# Altium footprint library ICs.PcbLib: 72 footprints (part 2 of 5)
Each footprint in its own frame and in the unit in brackets; x right, y up, seen from the top. Pads: shape width x height; smd on the part's side, far side on the other; paste and mask are expansions set on the pad; w line width, h text height; cw(c..) or ccw(c..) is an arc to the next point about the centre after c.
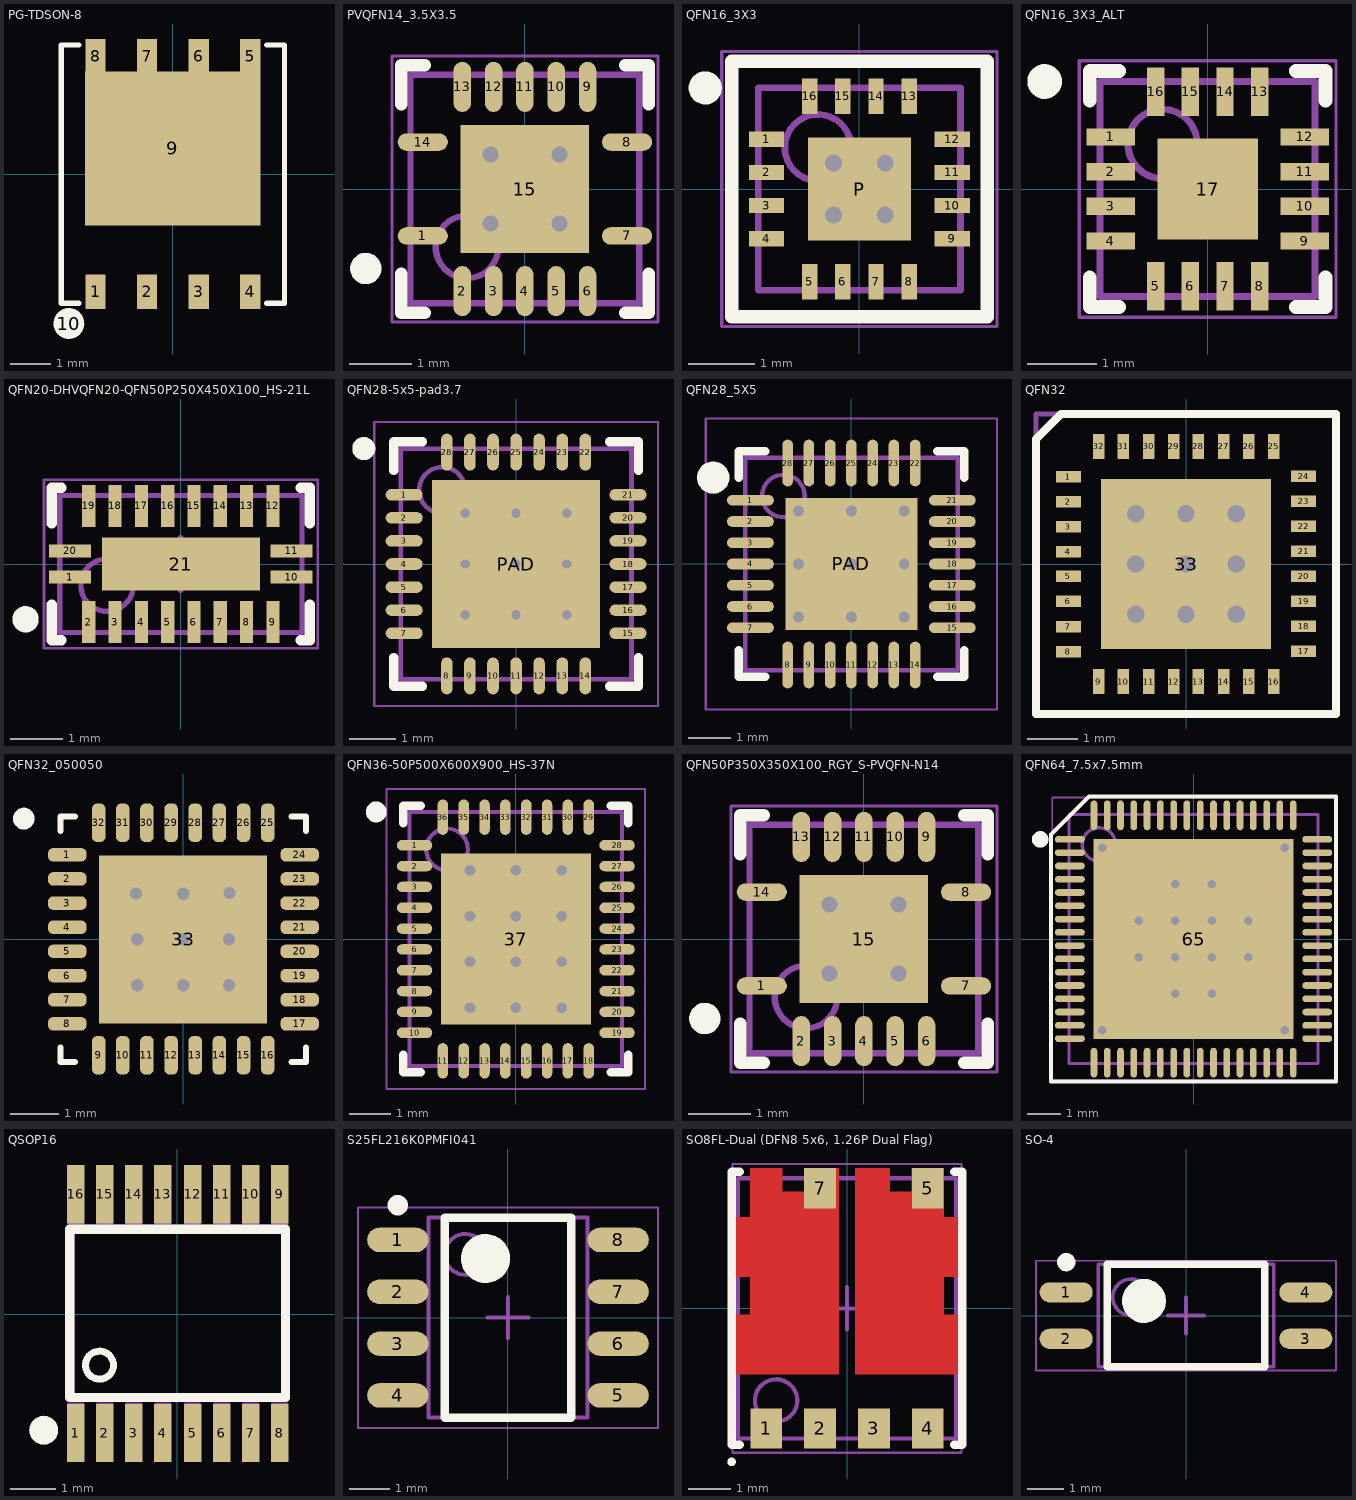
[diagram p1: the footprints below, top view; thin cyan lines are the x and y axes]

## PG-TDSON-8 [mm]
pads (10):
  rect 0.5x0.85 smd mask+0.051: 1(-1.905,-2.9) 2(-0.635,-2.9) 3(0.635,-2.9) 4(1.905,-2.9) 5(1.905,2.9) 6(0.635,2.9) 7(-0.635,2.9) 8(-1.905,2.9)
  rect 4.32x3.8 smd mask+0.051: 9(0,0.63)
  round 0.762 on Top Overlay mask+0.051: 10(-2.56,-3.68)
Top Overlay:
  lines w0.127: -2.31,-3.18 -2.75,-3.18 -2.75,3.18 -2.31,3.18 ; 2.31,-3.18 2.75,-3.18 2.75,3.18 2.31,3.18
3D body: height 1.1, standoff 0, extent -2.75,-3.18 2.75,3.18

## PVQFN14_3.5X3.5 [mm] "QFN, 14-Leads, Body 3.50x3.50mm, Pitch 1.50mm/0.50mm, Thermal Pad 2.05x2.05mm, IPC High Density"
height 1
pads (15):
  oval 0.8x0.28 smd: 1(-1.631,-0.75) 7(1.631,-0.75) 8(1.631,0.75) 14(-1.631,0.75)
  oval 0.28x0.8 smd: 2(-1,-1.631) 3(-0.5,-1.631) 4(0,-1.631) 5(0.5,-1.631) 6(1,-1.631) 9(1,1.631) 10(0.5,1.631) 11(0,1.631) 12(-0.5,1.631) 13(-1,1.631)
  rect 2.05x2.05 smd paste-1.143: 15(0,0)
via 0.55,0.55 diameter 0.559 hole 0.254
via 0.55,-0.55 diameter 0.559 hole 0.254
via -0.55,0.55 diameter 0.559 hole 0.254
via -0.55,-0.55 diameter 0.559 hole 0.254
Top Overlay:
  circle w0.25: c-2.54,-1.27 r0.125
  lines w0.2: -1.975,-1.35 -1.975,-1.975 -1.6,-1.975 ; -1.975,1.35 -1.975,1.975 -1.6,1.975 ; 1.6,-1.975 1.975,-1.975 1.975,-1.35 ; 1.6,1.975 1.975,1.975 1.975,1.35
Top Paste:
  region: -0.84,-0.84 -0.84,-0.12 -0.11,-0.12 -0.11,-0.84
  region: 0.84,-0.84 0.12,-0.84 0.12,-0.11 0.84,-0.11
  region: 0.84,0.84 0.84,0.12 0.11,0.12 0.11,0.84
  region: -0.84,0.84 -0.12,0.84 -0.12,0.11 -0.84,0.11
Top Solder:
  rectangle: -1.346,-2.134 1.295,2.134
Mechanical 13:
  circle w0.1: c-0.925,-0.925 r0.5
  lines w0.1: -1.825,-1.825 -1.825,1.825 1.825,1.825 1.825,-1.825 -1.825,-1.825
Mechanical 15:
  lines w0.05: -2.125,-2.125 -2.125,2.125 2.125,2.125 2.125,-2.125 -2.125,-2.125
  lines w0.1: -0.5,0 0.5,0 ; 0,-0.5 0,0.5
3D body: height 1, standoff 0.08, extent -1.825,-1.825 1.825,1.825

## QFN16_3X3 [mm]
height 0.9
pads (21):
  rect 0.53x0.23 smd mask+0.051: 1(-1.4,0.75) 2(-1.4,0.25) 3(-1.4,-0.25) 4(-1.4,-0.75) 9(1.4,-0.75) 10(1.4,-0.25) 11(1.4,0.25) 12(1.4,0.75)
  rect 0.23x0.53 smd mask+0.051: 5(-0.75,-1.4) 6(-0.25,-1.4) 7(0.25,-1.4) 8(0.75,-1.4) 13(0.75,1.4) 14(0.25,1.4) 15(-0.25,1.4) 16(-0.75,1.4)
  rect 1.55x1.55 smd paste-0.8 mask+0.051: P(0,0)
  rect 0.6x0.6 on Top Paste: ""(-0.402,0.402) ""(-0.401,-0.401) ""(0.4,0.401) ""(0.401,-0.401)
via -0.39,-0.39 diameter 0.559 hole 0.254
via 0.39,-0.39 diameter 0.559 hole 0.254
via 0.39,0.39 diameter 0.559 hole 0.254
via -0.39,0.39 diameter 0.559 hole 0.254
Top Overlay:
  circle w0.25: c-2.325,1.525 r0.125
  lines w0.203: -1.925,-1.925 1.925,-1.925 1.925,1.925 -1.925,1.925 -1.925,-1.925
Mechanical 13:
  circle w0.1: c-0.625,0.625 r0.5
  lines w0.1: -1.525,-1.525 -1.525,1.525 1.525,1.525 1.525,-1.525 -1.525,-1.525
Mechanical 15:
  lines w0.05: -2.075,-2.075 -2.075,2.075 2.075,2.075 2.075,-2.075 -2.075,-2.075
  lines w0.1: -0.5,0 0.5,0 ; 0,-0.5 0,0.5
3D body "QFN16_3X3.step": height 0.9, standoff 0, extent -1.526,-1.526 1.526,1.526

## QFN16_3X3_ALT [mm]
height 0.8
pads (17):
  rect 0.7x0.25 smd mask+0.051: 1(-1.4,0.75) 2(-1.4,0.25) 3(-1.4,-0.25) 4(-1.4,-0.75) 9(1.4,-0.75) 10(1.4,-0.25) 11(1.4,0.25) 12(1.4,0.75)
  rect 0.25x0.7 smd mask+0.051: 5(-0.75,-1.4) 6(-0.25,-1.4) 7(0.25,-1.4) 8(0.75,-1.4) 13(0.75,1.4) 14(0.25,1.4) 15(-0.25,1.4) 16(-0.75,1.4)
  rect 1.45x1.45 smd paste-0.75 mask+0.051: 17(0,0)
Top Overlay:
  circle w0.25: c-2.35,1.55 r0.125
  lines w0.2: -1.7,-1.275 -1.7,-1.7 -1.275,-1.7 ; -1.7,1.275 -1.7,1.7 -1.275,1.7 ; 1.275,-1.7 1.7,-1.7 1.7,-1.275 ; 1.275,1.7 1.7,1.7 1.7,1.275
Top Paste:
  region: 0.64,0.64 0.03,0.64 0.03,0.03 0.64,0.03
  region: 0.64,-0.64 0.64,-0.03 0.03,-0.03 0.03,-0.64
  region: -0.64,-0.64 -0.03,-0.64 -0.03,-0.03 -0.64,-0.03
  region: -0.64,0.64 -0.64,0.03 -0.03,0.03 -0.03,0.64
Mechanical 13:
  circle w0.1: c-0.65,0.65 r0.5
  lines w0.1: -1.55,-1.55 1.55,-1.55 1.55,1.55 -1.55,1.55 -1.55,-1.55
Mechanical 15:
  lines w0.05: -1.85,-1.85 1.85,-1.85 1.85,1.85 -1.85,1.85 -1.85,-1.85
  lines w0.1: -0.5,0 0.5,0 ; 0,-0.5 0,0.5
3D body "QFN16_3X3_ALT.step": height 0.8, standoff 0, extent -1.551,-1.551 1.551,1.551

## QFN20-DHVQFN20-QFN50P250X450X100_HS-21L [mm] "QFN, 20-Leads, Body 2.50x4.50mm, Pitch 0.50mm, Thermal Pad 1.00x3.00mm, IPC High Density"
height 1
pads (21):
  rect 0.8x0.25 smd: 1(-2.105,-0.25) 10(2.105,-0.25) 11(2.105,0.25) 20(-2.105,0.25)
  rect 0.25x0.8 smd: 2(-1.75,-1.105) 3(-1.25,-1.105) 4(-0.75,-1.105) 5(-0.25,-1.105) 6(0.25,-1.105) 7(0.75,-1.105) 8(1.25,-1.105) 9(1.75,-1.105) 12(1.75,1.105) 13(1.25,1.105) 14(0.75,1.105) 15(0.25,1.105) 16(-0.25,1.105) 17(-0.75,1.105) 18(-1.25,1.105) 19(-1.75,1.105)
  rect 3x1 smd paste-5.08: 21(0,0)
Top Overlay:
  circle w0.25: c-2.95,-1.05 r0.125
  lines w0.2: -2.45,-0.775 -2.45,-1.45 -2.275,-1.45 ; -2.45,0.775 -2.45,1.45 -2.275,1.45 ; 2.275,-1.45 2.45,-1.45 2.45,-0.775 ; 2.275,1.45 2.45,1.45 2.45,0.775
Top Paste:
  region: 1.5,0.5 0.15,0.5 0.15,-0.5 1.5,-0.5
  rectangle: -1.5,-0.5 -0.15,0.5
Top Solder:
  rectangle: -2.6,-0.5 2.625,0.5
  rectangle: -1.975,-1.6 1.975,1.6
Assembly Top:
  circle w0.1: c-1.4,-0.4 r0.5
  lines w0.1: -2.3,-1.3 -2.3,1.3 2.3,1.3 2.3,-1.3 -2.3,-1.3
Courtyard Top:
  lines w0.05: -2.6,-1.6 -2.6,1.6 2.6,1.6 2.6,-1.6 -2.6,-1.6
  lines w0.1: -0.5,0 0.5,0 ; 0,-0.5 0,0.5
3D body "QFN20-DHVQFN20-QFN50P250X450X100_HS-21L.step": height 1, standoff 0, extent -2.301,-1.301 2.301,1.301

## QFN28-5x5-pad3.7 [mm] "QFN, 28-Leads, Body 5.00x5.00mm, Pitch 0.50mm, Thermal Pad 3.70x3.70mm, IPC Medium Density"
height 0.9
pads (29):
  oval 0.8x0.25 smd: 1(-2.425,1.5) 2(-2.425,1) 3(-2.425,0.5) 4(-2.425,0) 5(-2.425,-0.5) 6(-2.425,-1) 7(-2.425,-1.5) 15(2.425,-1.5) 16(2.425,-1) 17(2.425,-0.5) 18(2.425,0) 19(2.425,0.5) 20(2.425,1) 21(2.425,1.5)
  oval 0.25x0.8 smd: 8(-1.5,-2.425) 9(-1,-2.425) 10(-0.5,-2.425) 11(0,-2.425) 12(0.5,-2.425) 13(1,-2.425) 14(1.5,-2.425) 22(1.5,2.425) 23(1,2.425) 24(0.5,2.425) 25(0,2.425) 26(-0.5,2.425) 27(-1,2.425) 28(-1.5,2.425)
  rect 3.644x3.644 smd: PAD(0,0)
via -1.1,1.1 diameter 0.5 hole 0.2
via 0,1.1 diameter 0.5 hole 0.2
via 1.1,1.1 diameter 0.5 hole 0.2
via -1.1,0 diameter 0.5 hole 0.2
via 0,0 diameter 0.5 hole 0.2
via 1.1,0 diameter 0.5 hole 0.2
via -1.1,-1.1 diameter 0.5 hole 0.2
via 0,-1.1 diameter 0.5 hole 0.2
via 1.1,-1.1 diameter 0.5 hole 0.2
Top Overlay:
  circle w0.25: c-3.3,2.5 r0.125
  lines w0.2: -2.65,-2.025 -2.65,-2.65 -2.025,-2.65 ; -2.65,2.025 -2.65,2.65 -2.025,2.65 ; 2.025,-2.65 2.65,-2.65 2.65,-2.025 ; 2.025,2.65 2.65,2.65 2.65,2.025
Assembly Top:
  circle w0.1: c-1.6,1.6 r0.5
  lines w0.1: -2.5,-2.5 -2.5,2.5 2.5,2.5 2.5,-2.5 -2.5,-2.5
Courtyard Top:
  lines w0.05: -3.075,-3.075 -3.075,3.075 3.075,3.075 3.075,-3.075 -3.075,-3.075
  lines w0.1: -0.5,0 0.5,0 ; 0,-0.5 0,0.5
3D body: height 0.9, standoff 0, extent -2.5,-2.5 2.5,2.5

## QFN28_5X5 [mm] "QFN, 28-Leads, Body 5.00x5.00mm, Pitch 0.50mm, Thermal Pad 3.10x3.10mm, IPC Low Density"
height 0.9
pads (42):
  oval 1.1x0.25 smd paste-0.025 mask+0.051: 1(-2.375,1.5) 2(-2.375,1) 3(-2.375,0.5) 4(-2.375,0) 5(-2.375,-0.5) 6(-2.375,-1) 7(-2.375,-1.5) 15(2.375,-1.5) 16(2.375,-1) 17(2.375,-0.5) 18(2.375,0) 19(2.375,0.5) 20(2.375,1) 21(2.375,1.5)
  oval 0.25x1.1 smd paste-0.025 mask+0.051: 8(-1.5,-2.375) 9(-1,-2.375) 10(-0.5,-2.375) 11(0,-2.375) 12(0.5,-2.375) 13(1,-2.375) 14(1.5,-2.375) 22(1.5,2.375) 23(1,2.375) 24(0.5,2.375) 25(0,2.375) 26(-0.5,2.375) 27(-1,2.375) 28(-1.5,2.375)
  rect 3.1x3.1 smd paste-1.651 mask+0.051: PAD(0,0)
  round 0.762 on Top Overlay: ""(-3.251,2.032)
  rect 0.508x0.508 on Top Paste: ""(-1.245,-0.559) ""(-1.245,0.559) ""(-0.559,-1.27) ""(-0.559,1.245) ""(0.559,-1.27) ""(0.559,1.245) ""(1.245,-0.559) ""(1.245,0.559)
  rect 0.635x0.635 on Top Paste: ""(-0.508,-0.508) ""(-0.508,0.508) ""(0.508,-0.508) ""(0.508,0.508)
via 1.245,-1.245 diameter 0.559 hole 0.254
via 0,-1.245 diameter 0.559 hole 0.254
via -1.245,-1.245 diameter 0.559 hole 0.254
via 1.245,0 diameter 0.559 hole 0.254
via 0,0 diameter 0.559 hole 0.254
via -1.245,0 diameter 0.559 hole 0.254
via 1.245,1.245 diameter 0.559 hole 0.254
via 0,1.245 diameter 0.559 hole 0.254
via -1.245,1.245 diameter 0.559 hole 0.254
Top Overlay:
  lines w0.2: -2.65,-2.025 -2.65,-2.65 -2.025,-2.65 ; -2.65,2.025 -2.65,2.65 -2.025,2.65 ; 2.025,-2.65 2.65,-2.65 2.65,-2.025 ; 2.025,2.65 2.65,2.65 2.65,2.025
Drill Guide:
  lines w0.051: -1.245,-1.549 -1.245,1.245 1.549,1.245 ; -1.245,-1.245 1.549,-1.245 ; 1.245,-1.245 1.245,1.549
Mechanical 13:
  circle w0.1: c-1.6,1.6 r0.5
  lines w0.1: -2.5,-2.5 2.5,-2.5 2.5,2.5 -2.5,2.5 -2.5,-2.5
Mechanical 15:
  lines w0.05: -3.425,-3.425 3.425,-3.425 3.425,3.425 -3.425,3.425 -3.425,-3.425
  lines w0.1: -0.5,0 0.5,0 ; 0,-0.5 0,0.5
3D body "QFN28_5X5.step": height 0.9, standoff 0, extent -2.501,-2.501 2.501,2.501

## QFN32 [mm]
pads (33):
  rect 0.5x0.23 smd: 1(-2.35,1.75) 2(-2.35,1.25) 3(-2.35,0.75) 4(-2.35,0.25) 5(-2.35,-0.25) 6(-2.35,-0.75) 7(-2.35,-1.25) 8(-2.35,-1.75) 17(2.35,-1.75) 18(2.35,-1.25) 19(2.35,-0.75) 20(2.35,-0.25) 21(2.35,0.25) 22(2.35,0.75) 23(2.35,1.25) 24(2.35,1.75)
  rect 0.23x0.5 smd: 9(-1.75,-2.35) 10(-1.25,-2.35) 11(-0.75,-2.35) 12(-0.25,-2.35) 13(0.25,-2.35) 14(0.75,-2.35) 15(1.25,-2.35) 16(1.75,-2.35) 25(1.75,2.35) 26(1.25,2.35) 27(0.75,2.35) 28(0.25,2.35) 29(-0.25,2.35) 30(-0.75,2.35) 31(-1.25,2.35) 32(-1.75,2.35)
  rect 3.4x3.4 smd paste-1.7: 33(0,0)
via 1,0 diameter 0.7 hole 0.35
via -1,0 diameter 0.7 hole 0.35
via 0,0 diameter 0.7 hole 0.35
via 1,-1 diameter 0.7 hole 0.35
via -1,-1 diameter 0.7 hole 0.35
via 1,1 diameter 0.7 hole 0.35
via -1,1 diameter 0.7 hole 0.35
via 0,-1 diameter 0.7 hole 0.35
via 0,1 diameter 0.7 hole 0.35
Top Overlay:
  lines w0.152: -3,-3 -3,2.5 -2.5,3 3,3 3,-3 -3,-3
Top Paste:
  rectangle: 0.565,-1.435 1.435,-0.565
  rectangle: -0.435,-1.435 0.435,-0.565
  rectangle: -1.435,-1.435 -0.565,-0.565
  rectangle: -1.435,-0.435 -0.565,0.435
  rectangle: -1.435,0.565 -0.565,1.435
  rectangle: -0.435,0.565 0.435,1.435
  rectangle: 0.565,0.565 1.435,1.435
  rectangle: 0.565,-0.435 1.435,0.435
  rectangle: -0.435,-0.435 0.435,0.435
Mechanical 15:
  lines w0.1: -0.5,0 0.5,0 ; 0,-0.5 0,0.5 ; -3,-3 3,-3 3,3 -3,3 -3,-3
3D body "User Library-qfn32-5x5.step": height 0.8, standoff 0, extent -2.51,-2.51 2.51,2.51

## QFN32_050050 [mm]
pads (33):
  rrect80% 0.8x0.28 smd mask+0.05: 1(-2.4,1.75) 2(-2.4,1.25) 3(-2.4,0.75) 4(-2.4,0.25) 5(-2.4,-0.25) 6(-2.4,-0.75) 7(-2.4,-1.25) 8(-2.4,-1.75) 17(2.413,-1.75) 18(2.413,-1.25) 19(2.413,-0.75) 20(2.413,-0.25) 21(2.413,0.25) 22(2.413,0.75) 23(2.413,1.25) 24(2.413,1.75)
  rrect80% 0.28x0.8 smd mask+0.05: 9(-1.75,-2.4) 10(-1.25,-2.4) 11(-0.75,-2.4) 12(-0.25,-2.4) 13(0.25,-2.4) 14(0.75,-2.4) 15(1.25,-2.4) 16(1.75,-2.4) 25(1.75,2.413) 26(1.25,2.413) 27(0.75,2.413) 28(0.25,2.413) 29(-0.25,2.413) 30(-0.75,2.413) 31(-1.25,2.413) 32(-1.75,2.413)
  rect 3.48x3.48 smd paste-4: 33(0,0)
via 0.95,-0.95 diameter 0.559 hole 0.254
via 0,-0.95 diameter 0.559 hole 0.254
via -0.95,-0.95 diameter 0.559 hole 0.254
via -0.95,0 diameter 0.559 hole 0.254
via -0.975,0.95 diameter 0.559 hole 0.254
via 0,0.945 diameter 0.559 hole 0.254
via 0.959,0.957 diameter 0.559 hole 0.254
via 0.95,0 diameter 0.559 hole 0.254
via 0,0 diameter 0.559 hole 0.254
Top Overlay:
  circle w0.25: c-3.3,2.5 r0.1
  lines w0.127: -2.54,-2.24 -2.54,-2.54 -2.24,-2.54 ; -2.54,2.24 -2.54,2.54 -2.24,2.54 ; 2.24,-2.54 2.54,-2.54 2.54,-2.24 ; 2.24,2.54 2.54,2.54 2.54,2.24
Top Paste:
  region: -1.675,-1.675 -1.675,-1.05 -1.375,-1.05 -1.05,-1.375 -1.05,-1.675
  region: -0.125,-1.675 -0.825,-1.675 -0.825,-1.35 -0.575,-1.1 -0.35,-1.1 -0.125,-1.325
  region: -0.825,-0.575 -0.825,-0.375 -0.6,-0.15 -0.35,-0.15 -0.15,-0.35 -0.15,-0.6 -0.375,-0.825 -0.575,-0.825
  region: -1.675,-0.825 -1.675,-0.125 -1.348,-0.125 -1.1,-0.377 -1.1,-0.584 -1.337,-0.825
  region: 0.825,-1.675 0.125,-1.675 0.125,-1.348 0.377,-1.1 0.584,-1.1 0.825,-1.337
  region: 1.675,-0.125 1.675,-0.825 1.348,-0.825 1.1,-0.573 1.1,-0.366 1.337,-0.125
  region: 1.675,-1.675 1.05,-1.675 1.05,-1.375 1.375,-1.05 1.675,-1.05
  region: 0.125,-0.575 0.125,-0.375 0.35,-0.15 0.6,-0.15 0.8,-0.35 0.8,-0.6 0.575,-0.825 0.375,-0.825
  region: -0.125,0.575 -0.125,0.375 -0.35,0.15 -0.6,0.15 -0.8,0.35 -0.8,0.6 -0.575,0.825 -0.375,0.825
  region: -1.675,1.675 -1.05,1.675 -1.05,1.375 -1.375,1.05 -1.675,1.05
  region: -1.675,0.125 -1.675,0.825 -1.348,0.825 -1.1,0.573 -1.1,0.366 -1.337,0.125
  region: -0.825,1.675 -0.125,1.675 -0.125,1.348 -0.377,1.1 -0.584,1.1 -0.825,1.337
  region: 1.675,0.825 1.675,0.125 1.348,0.125 1.1,0.377 1.1,0.584 1.337,0.825
  region: 0.825,0.575 0.825,0.375 0.6,0.15 0.35,0.15 0.15,0.35 0.15,0.6 0.375,0.825 0.575,0.825
  region: 0.125,1.675 0.825,1.675 0.825,1.35 0.575,1.1 0.35,1.1 0.125,1.325
  region: 1.675,1.675 1.675,1.05 1.375,1.05 1.05,1.375 1.05,1.675
3D body: height 1, standoff 0, extent -2.84,-2.84 2.857,2.857

## QFN36-50P500X600X900_HS-37N [mm] "QFN, 36-Leads, Body 5.00x6.00mm, Pitch 0.50mm, Thermal Pad 3.60x4.10mm, IPC Medium Density"
height 9
pads (41):
  oval 0.85x0.25 smd mask+0.051: 1(-2.43,2.25) 2(-2.43,1.75) 3(-2.43,1.25) 4(-2.43,0.75) 5(-2.43,0.25) 6(-2.43,-0.25) 7(-2.43,-0.75) 8(-2.43,-1.25) 9(-2.43,-1.75) 10(-2.43,-2.25) 19(2.43,-2.25) 20(2.43,-1.75) 21(2.43,-1.25) 22(2.43,-0.75) 23(2.43,-0.25) 24(2.43,0.25) 25(2.43,0.75) 26(2.43,1.25) 27(2.43,1.75) 28(2.43,2.25)
  oval 0.25x0.85 smd mask+0.051: 11(-1.75,-2.925) 12(-1.25,-2.925) 13(-0.75,-2.925) 14(-0.25,-2.925) 15(0.25,-2.925) 16(0.75,-2.925) 17(1.25,-2.925) 18(1.75,-2.925) 29(1.75,2.925) 30(1.25,2.925) 31(0.75,2.925) 32(0.25,2.925) 33(-0.25,2.925) 34(-0.75,2.925) 35(-1.25,2.925) 36(-1.75,2.925)
  rect 3.6x4.1 smd paste-2.159 mask+0.051: 37(0,0)
  rect 1.34x1.57 on Top Paste: ""(-0.821,-0.936) ""(-0.82,0.935) ""(0.82,-0.936) ""(0.82,0.936)
via 0,1.65 diameter 0.559 hole 0.254
via 1.1,1.65 diameter 0.559 hole 0.254
via -1.1,0.55 diameter 0.559 hole 0.254
via 0,0.55 diameter 0.559 hole 0.254
via 1.1,0.55 diameter 0.559 hole 0.254
via -1.1,-0.55 diameter 0.559 hole 0.254
via 0,-0.55 diameter 0.559 hole 0.254
via 1.1,-0.55 diameter 0.559 hole 0.254
via -1.1,-1.65 diameter 0.559 hole 0.254
via 0,-1.65 diameter 0.559 hole 0.254
via 1.1,-1.65 diameter 0.559 hole 0.254
via -1.1,1.65 diameter 0.559 hole 0.254
Top Overlay:
  circle w0.25: c-3.35,3.05 r0.125
  lines w0.2: -2.7,-2.775 -2.7,-3.2 -2.275,-3.2 ; -2.7,2.775 -2.7,3.2 -2.275,3.2 ; 2.275,-3.2 2.7,-3.2 2.7,-2.775 ; 2.275,3.2 2.7,3.2 2.7,2.775
Mechanical 13:
  circle w0.1: c-1.65,2.15 r0.5
  lines w0.1: -2.55,-3.05 -2.55,3.05 2.55,3.05 2.55,-3.05 -2.55,-3.05
Mechanical 15:
  lines w0.05: -3.1,-3.6 -3.1,3.6 3.1,3.6 3.1,-3.6 -3.1,-3.6
  lines w0.1: -0.5,0 0.5,0 ; 0,-0.5 0,0.5
3D body: height 0.9, standoff 0.05, extent -2.55,-3.05 2.55,3.05

## QFN50P350X350X100_RGY_S-PVQFN-N14 [mm] "QFN, 14-Leads, Body 3.50x3.50mm, Pitch 1.50mm/0.50mm, Thermal Pad 2.05x2.05mm, IPC High Density"
height 1
pads (15):
  oval 0.8x0.28 smd: 1(-1.631,-0.75) 7(1.631,-0.75) 8(1.631,0.75) 14(-1.631,0.75)
  oval 0.28x0.8 smd: 2(-1,-1.631) 3(-0.5,-1.631) 4(0,-1.631) 5(0.5,-1.631) 6(1,-1.631) 9(1,1.631) 10(0.5,1.631) 11(0,1.631) 12(-0.5,1.631) 13(-1,1.631)
  rect 2.05x2.05 smd paste-1.143: 15(0,0)
via -0.55,-0.55 diameter 0.559 hole 0.254
via -0.55,0.55 diameter 0.559 hole 0.254
via 0.55,-0.55 diameter 0.559 hole 0.254
via 0.55,0.55 diameter 0.559 hole 0.254
Top Overlay:
  circle w0.25: c-2.54,-1.27 r0.125
  lines w0.2: -1.975,-1.35 -1.975,-1.975 -1.6,-1.975 ; -1.975,1.35 -1.975,1.975 -1.6,1.975 ; 1.6,-1.975 1.975,-1.975 1.975,-1.35 ; 1.6,1.975 1.975,1.975 1.975,1.35
Top Paste:
  region: -0.84,0.84 -0.12,0.84 -0.12,0.11 -0.84,0.11
  region: 0.84,0.84 0.84,0.12 0.11,0.12 0.11,0.84
  region: 0.84,-0.84 0.12,-0.84 0.12,-0.11 0.84,-0.11
  region: -0.84,-0.84 -0.84,-0.12 -0.11,-0.12 -0.11,-0.84
Top Solder:
  rectangle: -1.346,-2.134 1.295,2.134
Mechanical 13:
  circle w0.1: c-0.925,-0.925 r0.5
  lines w0.1: -1.825,-1.825 1.825,-1.825 1.825,1.825 -1.825,1.825 -1.825,-1.825
Mechanical 15:
  lines w0.05: -2.125,-2.125 2.125,-2.125 2.125,2.125 -2.125,2.125 -2.125,-2.125
  lines w0.1: -0.5,0 0.5,0 ; 0,-0.5 0,0.5
3D body: height 1, standoff 0.08, extent -1.825,-1.825 1.825,1.825

## QFN64_7.5x7.5mm [mm]
height 0.9
pads (65):
  oval 0.9x0.2 smd paste-0.025 mask+0.051: 1(-3.725,3) 2(-3.725,2.6) 3(-3.725,2.2) 4(-3.725,1.8) 5(-3.725,1.4) 6(-3.725,1) 7(-3.725,0.6) 8(-3.725,0.2) 9(-3.725,-0.2) 10(-3.725,-0.6) 11(-3.725,-1) 12(-3.725,-1.4) 13(-3.725,-1.8) 14(-3.725,-2.2) 15(-3.725,-2.6) 16(-3.725,-3) 33(3.725,-3) 34(3.725,-2.6) 35(3.725,-2.2) 36(3.725,-1.8) 37(3.725,-1.4) 38(3.725,-1) 39(3.725,-0.6) 40(3.725,-0.2) 41(3.725,0.2) 42(3.725,0.6) 43(3.725,1) 44(3.725,1.4) 45(3.725,1.8) 46(3.725,2.2) 47(3.725,2.6) 48(3.725,3)
  oval 0.2x0.9 smd paste-0.025 mask+0.051: 17(-3,-3.725) 18(-2.6,-3.725) 19(-2.2,-3.725) 20(-1.8,-3.725) 21(-1.4,-3.725) 22(-1,-3.725) 23(-0.6,-3.725) 24(-0.2,-3.725) 25(0.2,-3.725) 26(0.6,-3.725) 27(1,-3.725) 28(1.4,-3.725) 29(1.8,-3.725) 30(2.2,-3.725) 31(2.6,-3.725) 32(3,-3.725) 49(3,3.725) 50(2.6,3.725) 51(2.2,3.725) 52(1.8,3.725) 53(1.4,3.725) 54(1,3.725) 55(0.6,3.725) 56(0.2,3.725) 57(-0.2,3.725) 58(-0.6,3.725) 59(-1,3.725) 60(-1.4,3.725) 61(-1.8,3.725) 62(-2.2,3.725) 63(-2.6,3.725) 64(-3,3.725)
  rect 6.02x6.02 smd paste-3.175 mask+0.051: 65(0,0)
via -2.75,2.75 diameter 0.508 hole 0.254
via 2.75,2.75 diameter 0.508 hole 0.254
via -0.55,1.65 diameter 0.508 hole 0.254
via 0.55,1.65 diameter 0.508 hole 0.254
via 1.65,0.55 diameter 0.508 hole 0.254
via 1.65,-0.55 diameter 0.508 hole 0.254
via -0.55,-1.65 diameter 0.508 hole 0.254
via 0.55,-1.65 diameter 0.508 hole 0.254
via -2.75,-2.75 diameter 0.508 hole 0.254
via 2.75,-2.75 diameter 0.508 hole 0.254
via -1.65,-0.55 diameter 0.508 hole 0.254
via -1.65,0.55 diameter 0.508 hole 0.254
via 0.55,-0.55 diameter 0.508 hole 0.254
via -0.55,-0.55 diameter 0.508 hole 0.254
via -0.55,0.55 diameter 0.508 hole 0.254
via 0.55,0.55 diameter 0.508 hole 0.254
Top Overlay:
  circle w0.25: c-4.62,3 r0.125
  lines w0.127: -4.29,-4.29 -4.29,3.15 -3.15,4.29 4.29,4.29 4.29,-4.29 -4.29,-4.29
Top Paste:
  region: -2.5,2.49 -2.5,0.29 -0.29,0.29 -0.29,2.49
  region: 2.49,2.5 0.29,2.5 0.29,0.29 2.49,0.29
  region: 2.5,-2.49 2.5,-0.29 0.29,-0.29 0.29,-2.49
  rectangle: -2.49,-2.5 -0.29,-0.29
Mechanical 13:
  circle w0.1: c-2.85,2.85 r0.5
  lines w0.1: -3.75,-3.75 -3.75,3.75 3.75,3.75 3.75,-3.75 -3.75,-3.75
Mechanical 15:
  lines w0.05: -4.26,-4.26 -4.26,4.26 4.26,4.26 4.26,-4.26 -4.26,-4.26
  lines w0.1: -0.5,0 0.5,0 ; 0,-0.5 0,0.5
3D body "QFN64_7.5x7.5mm.step": height 0.9, standoff 0, extent -3.751,-3.751 3.751,3.751

## QSOP16 [mil]
pads (17):
  rect 15x50 smd: 1(-87.5,-102.36) 2(-62.5,-102.36) 3(-37.5,-102.36) 4(-12.5,-102.36) 5(13,-102.36) 6(38,-102.36) 7(63,-102.36) 8(88,-102.36) 9(88,103) 10(63,103) 11(38,103) 12(13,103) 13(-12.5,103) 14(-37.5,103) 15(-62.5,103) 16(-87.5,103)
  round 25 on Top Overlay: ""(-115,-100)
Top Overlay:
  circle w6: c-67,-44 r12
  lines w8: -92.49,-71.8 93,-71.8 93,73 -92.49,73 -92.49,-71.8
Top Solder:
  region: -81,125 -94,125 -94,79 -81,79
  region: -79,129 -96,129 -96,76 -79,76
  region: -56,125 -69,125 -69,79 -56,79
  region: -54,129 -71,129 -71,76 -54,76
  region: -31,125 -44,125 -44,79 -31,79
  region: -29,129 -46,129 -46,76 -29,76
  region: -6,125 -19,125 -19,79 -6,79
  region: -4,129 -21,129 -21,76 -4,76
  region: 19,125 6,125 6,79 19,79
  region: 21,129 4,129 4,76 21,76
  region: 44,125 31,125 31,79 44,79
  region: 46,129 29,129 29,76 46,76
  region: 69,125 56,125 56,79 69,79
  region: 71,129 54,129 54,76 71,76
  region: 94,125 81,125 81,79 94,79
  region: 96,129 79,129 79,76 96,76
  rectangle: 81,-125 94,-79
  rectangle: 79,-129 96,-76
  rectangle: 56,-125 69,-79
  rectangle: 54,-129 71,-76
  rectangle: 31,-125 44,-79
  rectangle: 29,-129 46,-76
  rectangle: 6,-125 19,-79
  rectangle: 4,-129 21,-76
  rectangle: -19,-125 -6,-79
  rectangle: -21,-129 -4,-76
  rectangle: -44,-125 -31,-79
  rectangle: -46,-129 -29,-76
  rectangle: -69,-125 -56,-79
  rectangle: -71,-129 -54,-76
  rectangle: -94,-125 -81,-79
  rectangle: -96,-129 -79,-76
Mechanical 8:
  region: -80.5,123 -94.5,123 -94.5,76 -80.5,76
  region: -55.5,123 -69.5,123 -69.5,76 -55.5,76
  region: -30.5,123 -44.5,123 -44.5,76 -30.5,76
  region: -5.5,123 -19.5,123 -19.5,76 -5.5,76
  region: 20,123 6,123 6,76 20,76
  region: 45,123 31,123 31,76 45,76
  region: 70,123 56,123 56,76 70,76
  region: 95,123 81,123 81,76 95,76
  rectangle: 81,-122.05 95,-76
  rectangle: 56,-122.05 70,-76
  rectangle: 31,-122.05 45,-76
  rectangle: 6,-122.05 20,-76
  rectangle: -19.5,-122.05 -5.5,-76
  rectangle: -44.5,-122.05 -30.5,-76
  rectangle: -69.5,-122.05 -55.5,-76
  rectangle: -94.5,-122.05 -80.5,-76
  lines w8: -92.49,-71.8 -92.49,73 93,73 93,-55.12 93,-71.8 -92.49,-71.8
3D body: height 64.96, standoff 0, extent -95,-75 95,75
3D body: height 9.84, standoff 0, extent -95,-125 -80,-75
3D body: height 9.84, standoff 0, extent -70,-125 -55,-75
3D body: height 9.84, standoff 0, extent -45,-125 -30,-75
3D body: height 9.84, standoff 0, extent -20,-125 -5,-75
3D body: height 9.84, standoff 0, extent 5,-125 20,-75
3D body: height 9.84, standoff 0, extent 30,-125 45,-75
3D body: height 9.84, standoff 0, extent 55,-125 70,-75
3D body: height 9.84, standoff 0, extent 80,-125 95,-75
3D body: height 9.84, standoff 0, extent 80,75 95,125
3D body: height 9.84, standoff 0, extent 55,75 70,125
3D body: height 9.84, standoff 0, extent 30,75 45,125
3D body: height 9.84, standoff 0, extent 5,75 20,125
3D body: height 9.84, standoff 0, extent -20,75 -5,125
3D body: height 9.84, standoff 0, extent -45,75 -30,125
3D body: height 9.84, standoff 0, extent -70,75 -55,125
3D body: height 9.84, standoff 0, extent -95,75 -80,125

## S25FL216K0PMFI041 [mm] "SOIC, 8-Leads, Body 4.90x3.90mm, Pitch 1.27mm, IPC Medium Density"
height 1.75
pads (8):
  oval 1.5x0.6 smd: 1(-2.7,1.905) 2(-2.7,0.635) 3(-2.7,-0.635) 4(-2.7,-1.905) 5(2.7,-1.905) 6(2.7,-0.635) 7(2.7,0.635) 8(2.7,1.905)
Top Overlay:
  circle w0.25: c-2.7,2.755 r0.125
  circle w0.6: c-0.55,1.45 r0.3
  lines w0.2: -1.55,-2.45 -1.55,2.45 1.55,2.45 1.55,-2.45 -1.55,-2.45
Mechanical 13:
  circle w0.1: c-1.05,1.55 r0.5
  lines w0.1: -1.95,-2.45 -1.95,2.45 1.95,2.45 1.95,-2.45 -1.95,-2.45
Mechanical 15:
  lines w0.05: -3.675,-2.7 -3.675,2.7 3.675,2.7 3.675,-2.7 -3.675,-2.7
  lines w0.1: -0.5,0 0.5,0 ; 0,-0.5 0,0.5
3D body: height 1.75, standoff 0.1, extent -1.95,-2.45 1.95,2.45

## SO8FL-Dual (DFN8 5x6, 1.26P Dual Flag) [mm] "SON, 8-Leads, Body 5.15x6.15mm, Pitch 1.27mm, IPC High Density"
height 1.1
pads (6):
  rect 0.75x0.95 smd: 1(-1.905,-2.835) 2(-0.635,-2.835) 3(0.635,-2.835) 4(1.905,-2.835)
  rect 0.75x0.95 smd paste-1 mask-1: 5(1.905,2.835) 7(-0.635,2.835)
Top Layer:
  region: 2.775,-1.55 0.2,-1.55 0.2,3.31 1.005,3.31 1.005,2.75 1.53,2.75 1.53,3.31 2.28,3.31 2.28,2.15 2.775,2.15 2.775,0.75 2.28,0.75 2.28,-0.15 2.775,-0.15
  region: -2.775,-1.55 -0.2,-1.55 -0.2,3.31 -1.005,3.31 -1.005,2.75 -1.53,2.75 -1.53,3.31 -2.28,3.31 -2.28,2.15 -2.775,2.15 -2.775,0.75 -2.28,0.75 -2.28,-0.15 -2.775,-0.15
  region: -2.775,-1.55
Top Overlay:
  circle w0.1: c-2.725,-3.625 r0.05
  lines w0.2: -2.53,-3.225 -2.725,-3.225 -2.725,3.225 -2.53,3.225 ; 2.53,-3.225 2.725,-3.225 2.725,3.225 2.53,3.225
Top Paste:
  rectangle: 2.01,1.035 2.71,1.935
  rectangle: 0.26,1.035 0.96,1.935
  rectangle: 1.135,1.035 1.835,1.935
  rectangle: 1.94,-1.295 2.64,-0.395
  rectangle: 1.45,-0.155 2.15,0.745
  rectangle: 0.465,-0.155 1.165,0.745
  rectangle: 1.1,-1.295 1.8,-0.395
  rectangle: 0.26,-1.295 0.96,-0.395
  region: -0.26,-0.395 -0.96,-0.395 -0.96,-1.295 -0.26,-1.295
  region: -1.1,-0.395 -1.8,-0.395 -1.8,-1.295 -1.1,-1.295
  region: -0.465,0.745 -1.165,0.745 -1.165,-0.155 -0.465,-0.155
  region: -1.45,0.745 -2.15,0.745 -2.15,-0.155 -1.45,-0.155
  region: -1.94,-0.395 -2.64,-0.395 -2.64,-1.295 -1.94,-1.295
  region: -1.135,1.935 -1.835,1.935 -1.835,1.035 -1.135,1.035
  region: -0.26,1.935 -0.96,1.935 -0.96,1.035 -0.26,1.035
  region: -2.01,1.935 -2.71,1.935 -2.71,1.035 -2.01,1.035
  rectangle: -2.255,2.385 -1.555,3.285
  rectangle: -0.985,2.385 -0.285,3.285
  rectangle: 0.285,2.385 0.985,3.285
  rectangle: 1.555,2.385 2.255,3.285
Mechanical 13:
  circle w0.1: c-1.675,-2.175 r0.5
  lines w0.1: -2.575,-3.075 -2.575,3.075 2.575,3.075 2.575,-3.075 -2.575,-3.075
Mechanical 15:
  lines w0.05: -2.7,-3.41 -2.7,3.41 2.7,3.41 2.7,-3.41 -2.7,-3.41
  lines w0.1: -0.5,0 0.5,0 ; 0,-0.5 0,0.5
3D body: height 1.1, standoff 0, extent -2.575,-3.075 2.575,3.075

## SO-4 [mm]
height 2.1
pads (4):
  oval 1.45x0.55 smd: 1(-3.275,0.635) 2(-3.275,-0.635) 3(3.275,-0.635) 4(3.275,0.635)
Top Overlay:
  circle w0.25: c-3.275,1.46 r0.125
  circle w0.6: c-1.15,0.4 r0.3
  lines w0.2: -2.15,-1.4 -2.15,1.4 2.15,1.4 2.15,-1.4 -2.15,-1.4
Mechanical 13:
  circle w0.1: c-1.5,0.5 r0.5
  lines w0.1: -2.4,-1.4 -2.4,1.4 2.4,1.4 2.4,-1.4 -2.4,-1.4
Mechanical 15:
  lines w0.05: -4.1,-1.5 -4.1,1.5 4.1,1.5 4.1,-1.5 -4.1,-1.5
  lines w0.1: -0.5,0 0.5,0 ; 0,-0.5 0,0.5
3D body "SO-4.step": height 2.1, standoff 0, extent -3.575,-1.4 3.575,1.4